# Altium footprint library Switch-3x4x2_2P.PCBLIB: 2 footprints
Each footprint in its own frame and in the unit in brackets; x right, y up, seen from the top. Pads: shape width x height; smd on the part's side, far side on the other; paste and mask are expansions set on the pad; w line width, h text height; cw(c..) or ccw(c..) is an arc to the next point about the centre after c.
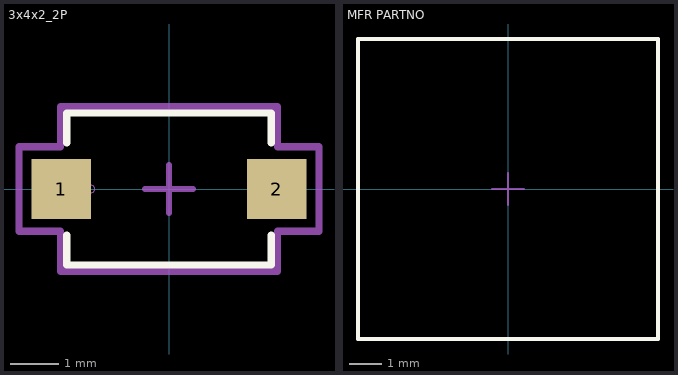
[diagram p0: the footprints below, top view; thin cyan lines are the x and y axes]

## 3x4x2_2P [mm]
pads (2):
  rect 1.24x1.245 smd paste+0: 1(-2.233,0) 2(2.233,0)
Top Overlay:
  lines w0.152: -2.121,-0.955 -2.121,-1.575 2.121,-1.575 2.121,-0.955 ; -2.121,0.955 -2.121,1.575 2.121,1.575 2.121,0.955
Top 3D:
  circle w0: c-1.613,0 r0.076
Top 元件外形:
  lines w0.152: -3.107,-0.877 -3.107,0.877 -2.248,0.877 -2.248,1.702 2.248,1.702 2.248,0.877 3.107,0.877 3.107,-0.877 2.248,-0.877 2.248,-1.702 -2.248,-1.702 -2.248,-0.877 -3.107,-0.877
Top 中心点:
  lines w0.127: -0.5,0 0.5,0 ; 0,-0.5 0,0.5

## MFR PARTNO [mm] "记得设置高度"
Top Overlay:
  lines w0.127: -4.7,-4.7 -4.7,4.7 4.7,4.7 4.7,-4.7 -4.7,-4.7
Top 元件外形:
  lines w0.127: -4.7,-4.7 4.7,-4.7 4.7,4.7 -4.7,4.7 -4.7,-4.7
Top 中心点:
  lines w0.051: -0.5,0 0.5,0 ; 0,-0.5 0,0.5